# Altium footprint library oscillator.PcbLib: 1 footprints
Each footprint in its own frame and in the unit in brackets; x right, y up, seen from the top. Pads: shape width x height; smd on the part's side, far side on the other; paste and mask are expansions set on the pad; w line width, h text height; cw(c..) or ccw(c..) is an arc to the next point about the centre after c.
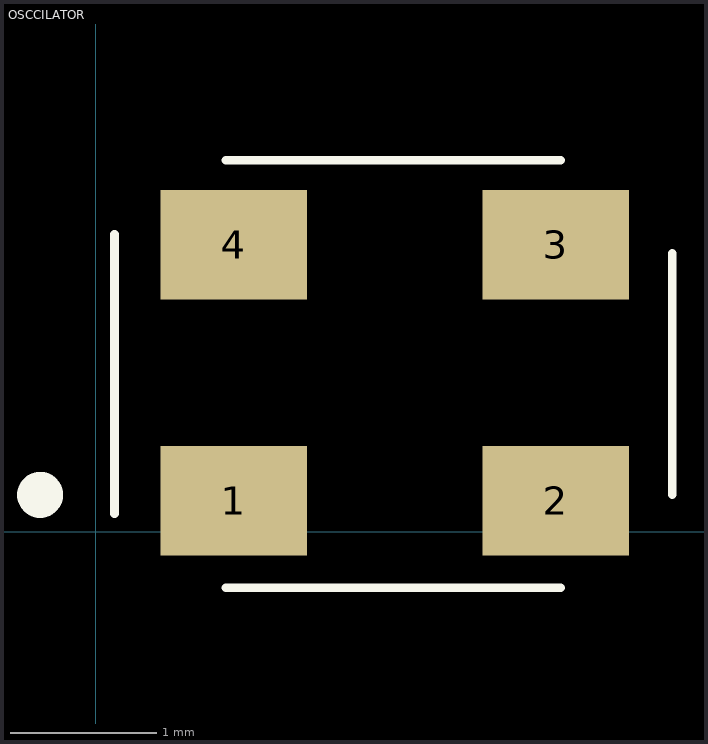
[diagram p0: the footprint, top view; thin cyan lines are the x and y axes]

## OSCCILATOR [mm]
pads (4):
  rect 1x0.75 smd: 1(0.941,0.213) 2(3.141,0.213) 3(3.141,1.963) 4(0.941,1.963)
Top Overlay:
  circle w0.254: c-0.381,0.254 r0.03
  lines w0.06: 0.127,0.127 0.127,2.032 ; 0.889,-0.381 3.175,-0.381 ; 0.889,2.54 3.175,2.54 ; 3.937,0.254 3.937,1.905
3D body: height 0.98, standoff -0.02, extent 0.635,0 3.429,2.159